# EAGLE library part UC_ATMEGA168DIL (library isysbus_ics)
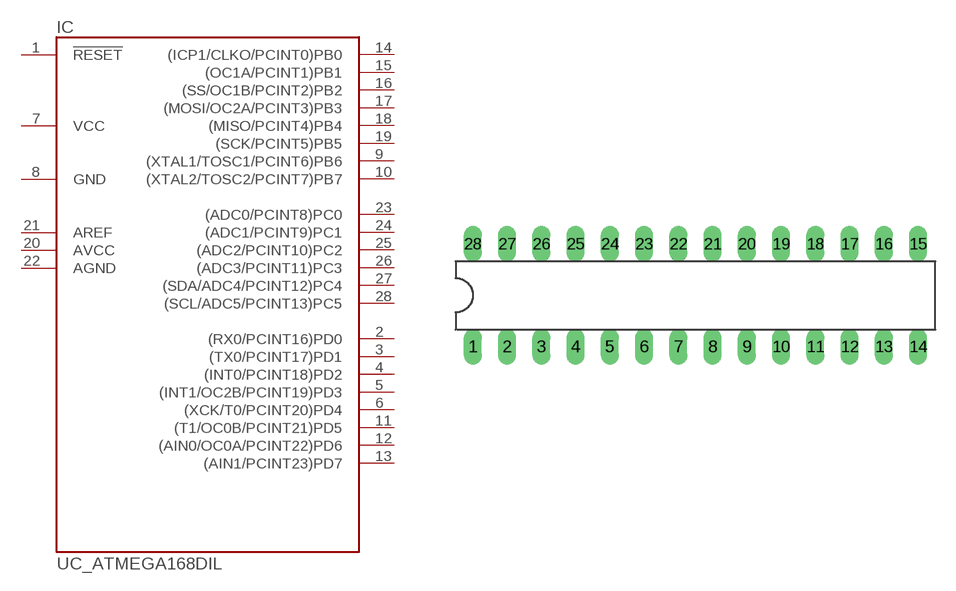
[diagram p25: symbol with the pads of DIL28-3; footprint DIL28-3]

Designator prefix IC

## UC_ATMEGA168DIL  [DIL28-3]
1  !RESET  in
2  (RX0/PCINT16)PD0
3  (TX0/PCINT17)PD1
4  (INT0/PCINT18)PD2
5  (INT1/OC2B/PCINT19)PD3
6  (XCK/T0/PCINT20)PD4
7  VCC  pwr
8  GND  pwr
9  (XTAL1/TOSC1/PCINT6)PB6
10  (XTAL2/TOSC2/PCINT7)PB7
11  (T1/OC0B/PCINT21)PD5
12  (AIN0/OC0A/PCINT22)PD6
13  (AIN1/PCINT23)PD7
14  (ICP1/CLKO/PCINT0)PB0
15  (OC1A/PCINT1)PB1
16  (SS/OC1B/PCINT2)PB2
17  (MOSI/OC2A/PCINT3)PB3
18  (MISO/PCINT4)PB4
19  (SCK/PCINT5)PB5
20  AVCC  pwr
21  AREF  pwr
22  AGND  pwr
23  (ADC0/PCINT8)PC0
24  (ADC1/PCINT9)PC1
25  (ADC2/PCINT10)PC2
26  (ADC3/PCINT11)PC3
27  (SDA/ADC4/PCINT12)PC4
28  (SCL/ADC5/PCINT13)PC5

## Footprint DIL28-3 (pad centres in mm)
Dual In Line package type P
drill 0.813 long: 1 -16.51,-3.81; 2 -13.97,-3.81; 3 -11.43,-3.81; 4 -8.89,-3.81; 5 -6.35,-3.81; 6 -3.81,-3.81; 7 -1.27,-3.81; 8 1.27,-3.81; 9 3.81,-3.81; 10 6.35,-3.81; 11 8.89,-3.81; 12 11.43,-3.81; 13 13.97,-3.81; 14 16.51,-3.81; 15 16.51,3.81; 16 13.97,3.81; 17 11.43,3.81; 18 8.89,3.81; 19 6.35,3.81; 20 3.81,3.81; 21 1.27,3.81; 22 -1.27,3.81; 23 -3.81,3.81; 24 -6.35,3.81; 25 -8.89,3.81; 26 -11.43,3.81; 27 -13.97,3.81; 28 -16.51,3.81